# Altium schematic symbol library FP6291LR-G1.SchLib: 1 symbol
Pins are listed as number, name and electrical type; pins without a type are passive.

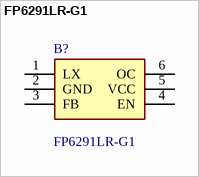
[diagram p0: symbol FP6291LR-G1]

## FP6291LR-G1
designator B?
2A 5.5V SOT-23-6 DC-DC Converters ROHS; Manufacturer_Name: Feeling Technology; Geometry.Height: 1.45mm; Manufacturer_Part_Number: FP6291LR-G1; Mouser Part Number: *; Mouser Price/Stock: *; Arrow Part Number: *; Arrow Price/Stock: *; Datasheet Link: https://datasheet.lcsc.com/lcsc/1810182113_Feeling-Tech-FP6291LR-G1_C18701.pdf
footprint SOT95P280X145-6N
pins: 1 LX, 2 GND, 3 FB, 4 EN, 5 VCC, 6 OC